# Altium footprint library RAD_8mmx11.5mm.PcbLib: 1 footprints
Each footprint in its own frame and in the unit in brackets; x right, y up, seen from the top. Pads: shape width x height; smd on the part's side, far side on the other; paste and mask are expansions set on the pad; w line width, h text height; cw(c..) or ccw(c..) is an arc to the next point about the centre after c.
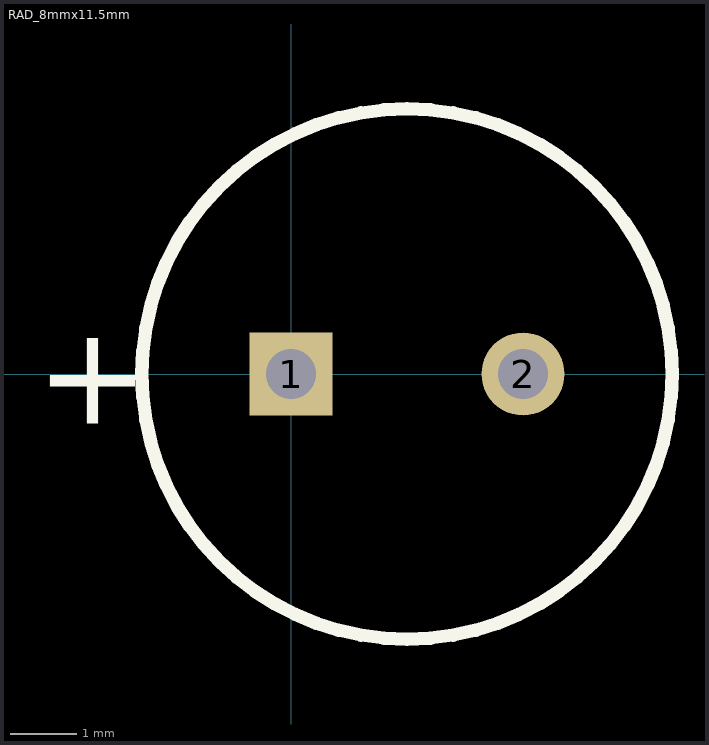
[diagram p0: the footprint, top view; thin cyan lines are the x and y axes]

## RAD_8mmx11.5mm [mm]
height 11.5
pads (2):
  rect 1.25x1.25 hole 0.75: 1(0,0)
  round 1.25 hole 0.75: 2(3.5,0)
TopOverlay:
  circle w0.2: c1.75,0 r4
  text "+" at -3.849,-0.749 h1.5
3D body: height 11.5, standoff 0, extent -2.25,-4 5.718,3.984